# EAGLE library part MCP41* (library IC_Data-Conversion)
7/8-Bit Single/Dual SPI Digital POT with Volatile Memory Datasheet <http://ww1.microchip.com/downloads/en/devicedoc/22060b.pdf>
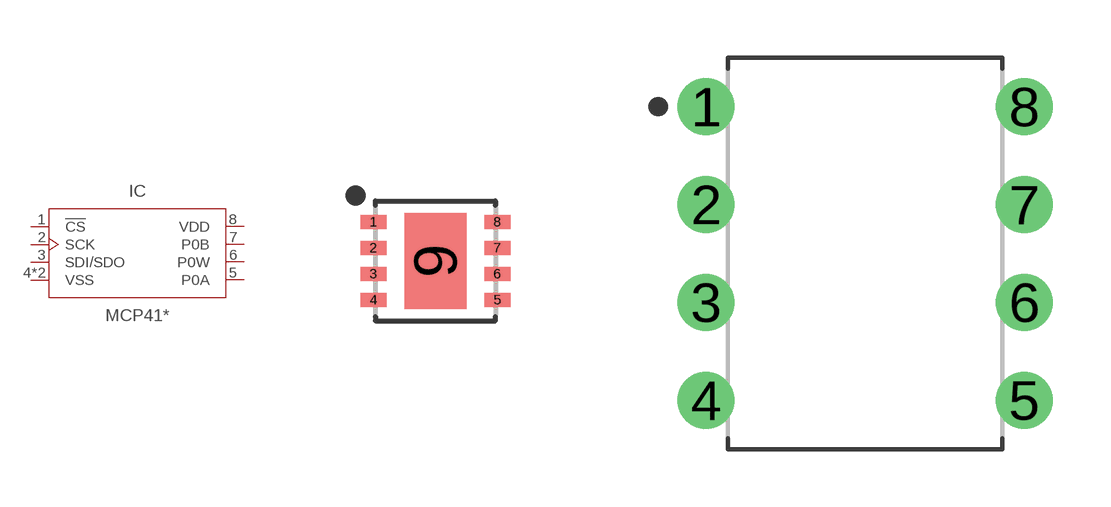
[diagram p0: symbol with the pads of SON65P300X300X100-9T160X240N; footprints SON65P300X300X100-9T160X240N, DIP825W55P254L1016H533Q8B]

Designator prefix IC

## MCP4131-103E/MF_DFN-8 (CATEGORY: IC_Data-Conversion; DESCRIPTION: 7/8-Bit Single/Dual SPI Digital POT with Volatile Memory; MANUFACTURER: Microchip Technology; MPN: MCP4131-103E/MF; OPERATING_TEMPERATURE: -40°C ~ 125°C; PART_STATUS: ACTIVE; ROHS_COMPLIANT: COMPLIANT; SERIES: MCP41X; SUB_CATEGORY: Digital Potentiometer; THERMALLOSS: 0.4 W; VALUE: MCP4131-103E/MF), MCP4131-104E/MF_DFN-8 (CATEGORY: IC_Data-Conversion; DESCRIPTION: 7/8-Bit Single/Dual SPI Digital POT with Volatile Memory; MANUFACTURER: Microchip Technology; MPN: MCP4131-104E/MF; OPERATING_TEMPERATURE: -40°C ~ 125°C; PART_STATUS: ACTIVE; ROHS_COMPLIANT: COMPLIANT; SERIES: MCP41X; SUB_CATEGORY: Digital Potentiometer; THERMALLOSS: 0.4 W; VALUE: MCP4131-104E/MF), MCP4131-502E/MF_DFN-8 (CATEGORY: IC_Data-Conversion; DESCRIPTION: 7/8-Bit Single/Dual SPI Digital POT with Volatile Memory; MANUFACTURER: Microchip Technology; MPN: MCP4131-502E/MF; OPERATING_TEMPERATURE: -40°C ~ 125°C; PART_STATUS: ACTIVE; ROHS_COMPLIANT: COMPLIANT; SERIES: MCP41X; SUB_CATEGORY: Digital Potentiometer; THERMALLOSS: 0.4 W; VALUE: MCP4131-502E/MF), MCP4131-503E/MF_DFN-8 (CATEGORY: IC_Data-Conversion; DESCRIPTION: 7/8-Bit Single/Dual SPI Digital POT with Volatile Memory; MANUFACTURER: Microchip Technology; MPN: MCP4131-503/MF; OPERATING_TEMPERATURE: -40°C ~ 125°C; PART_STATUS: ACTIVE; ROHS_COMPLIANT: COMPLIANT; SERIES: MCP41X; SUB_CATEGORY: Digital Potentiometer; THERMALLOSS: 0.4 W; VALUE: MCP4131-503/MF), MCP4141-103E/MF_DFN-8 (CATEGORY: IC_Data-Conversion; DESCRIPTION: 7/8-Bit Single/Dual SPI Digital POT with Volatile Memory; MANUFACTURER: Microchip Technology; MPN: MCP4141-103E/MF; OPERATING_TEMPERATURE: -40°C ~ 125°C; PART_STATUS: ACTIVE; ROHS_COMPLIANT: COMPLIANT; SERIES: MCP41X; SUB_CATEGORY: Digital Potentiometer; THERMALLOSS: 0.4 W; VALUE: MCP4141-103E/MF), MCP4141-104E/MF_DFN-8 (CATEGORY: IC_Data-Conversion; DESCRIPTION: 7/8-Bit Single/Dual SPI Digital POT with Volatile Memory; MANUFACTURER: Microchip Technology; MPN: MCP4141-104E/MF; OPERATING_TEMPERATURE: -40°C ~ 125°C; PART_STATUS: ACTIVE; ROHS_COMPLIANT: COMPLIANT; SERIES: MCP41X; SUB_CATEGORY: Digital Potentiometer; THERMALLOSS: 0.4 W; VALUE: MCP4141-104E/MF), MCP4141-502E/MF_DFN-8 (CATEGORY: IC_Data-Conversion; DESCRIPTION: 7/8-Bit Single/Dual SPI Digital POT with Volatile Memory; MANUFACTURER: Microchip Technology; MPN: MCP4141-502E/MF; OPERATING_TEMPERATURE: -40°C ~ 125°C; PART_STATUS: ACTIVE; ROHS_COMPLIANT: COMPLIANT; SERIES: MCP41X; SUB_CATEGORY: Digital Potentiometer; THERMALLOSS: 0.4 W; VALUE: MCP4141-502E/MF), MCP4141-503E/MF_DFN-8 (CATEGORY: IC_Data-Conversion; DESCRIPTION: 7/8-Bit Single/Dual SPI Digital POT with Volatile Memory; MANUFACTURER: Microchip Technology; MPN: MCP4141-503E/MF; OPERATING_TEMPERATURE: -40°C ~ 125°C; PART_STATUS: ACTIVE; ROHS_COMPLIANT: COMPLIANT; SERIES: MCP41X; SUB_CATEGORY: Digital Potentiometer; THERMALLOSS: 0.4 W; VALUE: MCP4141-503E/MF), MCP4151-103E/MF_DFN-8 (CATEGORY: IC_Data-Conversion; DESCRIPTION: 7/8-Bit Single/Dual SPI Digital POT with Volatile Memory; MANUFACTURER: Microchip Technology; MPN: MCP4151-103E/MF; OPERATING_TEMPERATURE: -40°C ~ 125°C; PART_STATUS: ACTIVE; ROHS_COMPLIANT: COMPLIANT; SERIES: MCP41X; SUB_CATEGORY: Digital Potentiometer; THERMALLOSS: 0.4 W; VALUE: MCP4151-103E/MF), MCP4151-104E/MF_DFN-8 (CATEGORY: IC_Data-Conversion; DESCRIPTION: 7/8-Bit Single/Dual SPI Digital POT with Volatile Memory; MANUFACTURER: Microchip Technology; MPN: MCP4151-104E/MF; OPERATING_TEMPERATURE: -40°C ~ 125°C; PART_STATUS: ACTIVE; ROHS_COMPLIANT: COMPLIANT; SERIES: MCP41X; SUB_CATEGORY: Digital Potentiometer; THERMALLOSS: 0.4 W; VALUE: MCP4151-104E/MF), MCP4151-502E/MF_DFN-8 (CATEGORY: IC_Data-Conversion; DESCRIPTION: 7/8-Bit Single/Dual SPI Digital POT with Volatile Memory; MANUFACTURER: Microchip Technology; MPN: MCP4151-502E/MF; OPERATING_TEMPERATURE: -40°C ~ 125°C; PART_STATUS: ACTIVE; ROHS_COMPLIANT: COMPLIANT; SERIES: MCP41X; SUB_CATEGORY: Digital Potentiometer; THERMALLOSS: 0.4 W; VALUE: MCP4151-502E/MF), MCP4151-503E/MF_DFN-8 (CATEGORY: IC_Data-Conversion; DESCRIPTION: 7/8-Bit Single/Dual SPI Digital POT with Volatile Memory; MANUFACTURER: Microchip Technology; MPN: MCP4151-503E/MF; OPERATING_TEMPERATURE: -40°C ~ 125°C; PART_STATUS: ACTIVE; ROHS_COMPLIANT: COMPLIANT; SERIES: MCP41X; SUB_CATEGORY: Digital Potentiometer; THERMALLOSS: 0.4 W; VALUE: MCP4151-503E/MF), MCP4161-103E/MF_DFN-8 (CATEGORY: IC_Data-Conversion; DESCRIPTION: 7/8-Bit Single/Dual SPI Digital POT with Volatile Memory; MANUFACTURER: Microchip Technology; MPN: MCP4161-103E/MF; OPERATING_TEMPERATURE: -40°C ~ 125°C; PART_STATUS: ACTIVE; ROHS_COMPLIANT: COMPLIANT; SERIES: MCP41X; SUB_CATEGORY: Digital Potentiometer; THERMALLOSS: 0.4 W; VALUE: MCP4161-103E/MF), MCP4161-104E/MF_DFN-8 (CATEGORY: IC_Data-Conversion; DESCRIPTION: 7/8-Bit Single/Dual SPI Digital POT with Volatile Memory; MANUFACTURER: Microchip Technology; MPN: MCP4161-104E/MF; OPERATING_TEMPERATURE: -40°C ~ 125°C; PART_STATUS: ACTIVE; ROHS_COMPLIANT: COMPLIANT; SERIES: MCP41X; SUB_CATEGORY: Digital Potentiometer; THERMALLOSS: 0.4 W; VALUE: MCP4161-104E/MF), MCP4161-502E/MF_DFN-8 (CATEGORY: IC_Data-Conversion; DESCRIPTION: 7/8-Bit Single/Dual SPI Digital POT with Volatile Memory; MANUFACTURER: Microchip Technology; MPN: MCP4161-502E/MF; OPERATING_TEMPERATURE: -40°C ~ 125°C; PART_STATUS: ACTIVE; ROHS_COMPLIANT: COMPLIANT; SERIES: MCP41X; SUB_CATEGORY: Digital Potentiometer; THERMALLOSS: 0.4 W; VALUE: MCP4161-502E/MF), MCP4161-503E/MF_DFN-8 (CATEGORY: IC_Data-Conversion; DESCRIPTION: 7/8-Bit Single/Dual SPI Digital POT with Volatile Memory; MANUFACTURER: Microchip Technology; MPN: MCP4161-503E/MF; OPERATING_TEMPERATURE: -40°C ~ 125°C; PART_STATUS: ACTIVE; ROHS_COMPLIANT: COMPLIANT; SERIES: MCP41X; SUB_CATEGORY: Digital Potentiometer; THERMALLOSS: 0.4 W; VALUE: MCP4161-503E/MF)  [SON65P300X300X100-9T160X240N]
1  !CS  in
2  SCK  in
3  SDI/SDO
4  VSS  pwr
5  P0A
6  P0W
7  P0B
8  VDD  pwr
9  VSS  pwr

## MCP4131-103E/P_PDIP-8 (CATEGORY: IC_Data-Conversion; DESCRIPTION: 7/8-Bit Single/Dual SPI Digital POT with Volatile Memory; MANUFACTURER: Microchip Technology; MPN: MCP4131-103E/P; OPERATING_TEMPERATURE: -40°C ~ 125°C; PART_STATUS: ACTIVE; ROHS_COMPLIANT: COMPLIANT; SUB_CATEGORY: Digital Potentiometer; THERMALLOSS: 0.4 W; VALUE: MCP4131-103E/P), MCP4131-104E/P_PDIP-8 (CATEGORY: IC_Data-Conversion; DESCRIPTION: 7/8-Bit Single/Dual SPI Digital POT with Volatile Memory; MANUFACTURER: Microchip Technology; MPN: MCP4131-104E/P; OPERATING_TEMPERATURE: -40°C ~ 125°C; PART_STATUS: ACTIVE; ROHS_COMPLIANT: COMPLIANT; SUB_CATEGORY: Digital Potentiometer; THERMALLOSS: 0.4 W; VALUE: MCP4131-104E/P), MCP4131-502E/P_PDIP-8 (CATEGORY: IC_Data-Conversion; DESCRIPTION: 7/8-Bit Single/Dual SPI Digital POT with Volatile Memory; MANUFACTURER: Microchip Technology; MPN: MCP4131-502E/P; OPERATING_TEMPERATURE: -40°C ~ 125°C; PART_STATUS: ACTIVE; ROHS_COMPLIANT: COMPLIANT; SUB_CATEGORY: Digital Potentiometer; THERMALLOSS: 0.4 W; VALUE: MCP4131-502E/P), MCP4131-503E/P_PDIP-8 (CATEGORY: IC_Data-Conversion; DESCRIPTION: 7/8-Bit Single/Dual SPI Digital POT with Volatile Memory; MANUFACTURER: Microchip Technology; MPN: MCP4131-503E/P; OPERATING_TEMPERATURE: -40°C ~ 125°C; PART_STATUS: ACTIVE; ROHS_COMPLIANT: COMPLIANT; SUB_CATEGORY: Digital Potentiometer; THERMALLOSS: 0.4 W; VALUE: MCP4131-503E/P), MCP4141-103E/P_PDIP-8 (CATEGORY: IC_Data-Conversion; DESCRIPTION: 7/8-Bit Single/Dual SPI Digital POT with Volatile Memory; MANUFACTURER: Microchip Technology; MPN: MCP4141-103E/P; OPERATING_TEMPERATURE: -40°C ~ 125°C; PART_STATUS: ACTIVE; ROHS_COMPLIANT: COMPLIANT; SUB_CATEGORY: Digital Potentiometer; THERMALLOSS: 0.4 W; VALUE: MCP4141-103E/P), MCP4141-104E/P_PDIP-8 (CATEGORY: IC_Data-Conversion; DESCRIPTION: 7/8-Bit Single/Dual SPI Digital POT with Volatile Memory; MANUFACTURER: Microchip Technology; MPN: MCP4141-104E/P; OPERATING_TEMPERATURE: -40°C ~ 125°C; PART_STATUS: ACTIVE; ROHS_COMPLIANT: COMPLIANT; SUB_CATEGORY: Digital Potentiometer; THERMALLOSS: 0.4 W; VALUE: MCP4141-104E/P), MCP4141-502E/P_PDIP-8 (CATEGORY: IC_Data-Conversion; DESCRIPTION: 7/8-Bit Single/Dual SPI Digital POT with Volatile Memory; MANUFACTURER: Microchip Technology; MPN: MCP4141-502E/P; OPERATING_TEMPERATURE: -40°C ~ 125°C; PART_STATUS: ACTIVE; ROHS_COMPLIANT: COMPLIANT; SUB_CATEGORY: Digital Potentiometer; THERMALLOSS: 0.4 W; VALUE: MCP4141-502E/P), MCP4141-503E/P_PDIP-8 (CATEGORY: IC_Data-Conversion; DESCRIPTION: 7/8-Bit Single/Dual SPI Digital POT with Volatile Memory; MANUFACTURER: Microchip Technology; MPN: MCP4141-503E/P; OPERATING_TEMPERATURE: -40°C ~ 125°C; PART_STATUS: ACTIVE; ROHS_COMPLIANT: COMPLIANT; SUB_CATEGORY: Digital Potentiometer; THERMALLOSS: 0.4 W; VALUE: MCP4141-503E/P), MCP4151-103E/P_PDIP-8 (CATEGORY: IC_Data-Conversion; DESCRIPTION: 7/8-Bit Single/Dual SPI Digital POT with Volatile Memory; MANUFACTURER: Microchip Technology; MPN: MCP4151-103E/P; OPERATING_TEMPERATURE: -40°C ~ 125°C; PART_STATUS: ACTIVE; ROHS_COMPLIANT: COMPLIANT; SUB_CATEGORY: Digital Potentiometer; THERMALLOSS: 0.4 W; VALUE: MCP4151-103E/P), MCP4151-104E/P_PDIP-8 (CATEGORY: IC_Data-Conversion; DESCRIPTION: 7/8-Bit Single/Dual SPI Digital POT with Volatile Memory; MANUFACTURER: Microchip Technology; MPN: MCP4151-104E/P; OPERATING_TEMPERATURE: -40°C ~ 125°C; PART_STATUS: ACTIVE; ROHS_COMPLIANT: COMPLIANT; SUB_CATEGORY: Digital Potentiometer; THERMALLOSS: 0.4 W; VALUE: MCP4151-104E/P), MCP4151-502E/P_PDIP-8 (CATEGORY: IC_Data-Conversion; DESCRIPTION: 7/8-Bit Single/Dual SPI Digital POT with Volatile Memory; MANUFACTURER: Microchip Technology; MPN: MCP4151-502E/P; OPERATING_TEMPERATURE: -40°C ~ 125°C; PART_STATUS: ACTIVE; ROHS_COMPLIANT: COMPLIANT; SUB_CATEGORY: Digital Potentiometer; THERMALLOSS: 0.4 W; VALUE: MCP4151-502E/P), MCP4151-503E/P_PDIP-8 (CATEGORY: IC_Data-Conversion; DESCRIPTION: 7/8-Bit Single/Dual SPI Digital POT with Volatile Memory; MANUFACTURER: Microchip Technology; MPN: MCP4151-503E/P; OPERATING_TEMPERATURE: -40°C ~ 125°C; PART_STATUS: ACTIVE; ROHS_COMPLIANT: COMPLIANT; SUB_CATEGORY: Digital Potentiometer; THERMALLOSS: 0.4 W; VALUE: MCP4151-503E/P), MCP4161-103E/P_PDIP-8 (CATEGORY: IC_Data-Conversion; DESCRIPTION: 7/8-Bit Single/Dual SPI Digital POT with Volatile Memory; MANUFACTURER: Microchip Technology; MPN: MCP4161-103E/P; OPERATING_TEMPERATURE: -40°C ~ 125°C; PART_STATUS: ACTIVE; ROHS_COMPLIANT: COMPLIANT; SUB_CATEGORY: Digital Potentiometer; THERMALLOSS: 0.4 W; VALUE: MCP4161-103E/P), MCP4161-104E/P_PDIP-8 (CATEGORY: IC_Data-Conversion; DESCRIPTION: 7/8-Bit Single/Dual SPI Digital POT with Volatile Memory; MANUFACTURER: Microchip Technology; MPN: MCP4161-104E/P; OPERATING_TEMPERATURE: -40°C ~ 125°C; PART_STATUS: ACTIVE; ROHS_COMPLIANT: COMPLIANT; SUB_CATEGORY: Digital Potentiometer; THERMALLOSS: 0.4 W; VALUE: MCP4161-104E/P), MCP4161-502E/P_PDIP-8 (CATEGORY: IC_Data-Conversion; DESCRIPTION: 7/8-Bit Single/Dual SPI Digital POT with Volatile Memory; MANUFACTURER: Microchip Technology; MPN: MCP4161-502E/P; OPERATING_TEMPERATURE: -40°C ~ 125°C; PART_STATUS: ACTIVE; ROHS_COMPLIANT: COMPLIANT; SUB_CATEGORY: Digital Potentiometer; THERMALLOSS: 0.4 W; VALUE: MCP4161-502E/P), MCP4161-503E/P_PDIP-8 (CATEGORY: IC_Data-Conversion; DESCRIPTION: 7/8-Bit Single/Dual SPI Digital POT with Volatile Memory; MANUFACTURER: Microchip Technology; MPN: MCP4161-503E/P; OPERATING_TEMPERATURE: -40°C ~ 125°C; PART_STATUS: ACTIVE; ROHS_COMPLIANT: COMPLIANT; SUB_CATEGORY: Digital Potentiometer; THERMALLOSS: 0.4 W; VALUE: MCP4161-503E/P)  [DIP825W55P254L1016H533Q8B]
1  !CS  in
2  SCK  in
3  SDI/SDO
4  VSS  pwr
5  P0A
6  P0W
7  P0B
8  VDD  pwr

## MCP4131-103E/SN_SOIC-8 (CATEGORY: IC_Data-Conversion; DESCRIPTION: 7/8-Bit Single/Dual SPI Digital POT with Volatile Memory; MANUFACTURER: Microchip Technology; MPN: MCP4131-103E/SN; OPERATING_TEMPERATURE: -40°C ~ 125°C; PART_STATUS: ACTIVE; ROHS_COMPLIANT: COMPLIANT; SERIES: MCP41X; SUB_CATEGORY: Digital Potentiometer; THERMALLOSS: 0.4 W; VALUE: MCP4131-103E/SN), MCP4131-104E/SN_SOIC-8 (CATEGORY: IC_Data-Conversion; DESCRIPTION: 7/8-Bit Single/Dual SPI Digital POT with Volatile Memory; MANUFACTURER: Microchip Technology; MPN: MCP4131-104E/SN; OPERATING_TEMPERATURE: -40°C ~ 125°C; PART_STATUS: ACTIVE; ROHS_COMPLIANT: COMPLIANT; SERIES: MCP41X; SUB_CATEGORY: Digital Potentiometer; THERMALLOSS: 0.4 W; VALUE: MCP4131-104E/SN), MCP4131-502E/SN_SOIC-8 (CATEGORY: IC_Data-Conversion; DESCRIPTION: 7/8-Bit Single/Dual SPI Digital POT with Volatile Memory; MANUFACTURER: Microchip Technology; MPN: MCP4131-502E/SN; OPERATING_TEMPERATURE: -40°C ~ 125°C; PART_STATUS: ACTIVE; ROHS_COMPLIANT: COMPLIANT; SERIES: MCP41X; SUB_CATEGORY: Digital Potentiometer; THERMALLOSS: 0.4 W; VALUE: MCP4131-502E/SN), MCP4131-503E/SN_SOIC-8 (CATEGORY: IC_Data-Conversion; DESCRIPTION: 7/8-Bit Single/Dual SPI Digital POT with Volatile Memory; MANUFACTURER: Microchip Technology; MPN: MCP4131-503E/SN; OPERATING_TEMPERATURE: -40°C ~ 125°C; PART_STATUS: ACTIVE; ROHS_COMPLIANT: COMPLIANT; SERIES: MCP41X; SUB_CATEGORY: Digital Potentiometer; THERMALLOSS: 0.4 W; VALUE: MCP4131-503E/SN), MCP4141-103E/SN_SOIC-8 (CATEGORY: IC_Data-Conversion; DESCRIPTION: 7/8-Bit Single/Dual SPI Digital POT with Volatile Memory; MANUFACTURER: Microchip Technology; MPN: MCP4141-103E/SN; OPERATING_TEMPERATURE: -40°C ~ 125°C; PART_STATUS: ACTIVE; ROHS_COMPLIANT: COMPLIANT; SERIES: MCP41X; SUB_CATEGORY: Digital Potentiometer; THERMALLOSS: 0.4 W; VALUE: MCP4141-103E/SN), MCP4141-104E/SN_SOIC-8 (CATEGORY: IC_Data-Conversion; DESCRIPTION: 7/8-Bit Single/Dual SPI Digital POT with Volatile Memory; MANUFACTURER: Microchip Technology; MPN: MCP4141-104E/SN; OPERATING_TEMPERATURE: -40°C ~ 125°C; PART_STATUS: ACTIVE; ROHS_COMPLIANT: COMPLIANT; SERIES: MCP41X; SUB_CATEGORY: Digital Potentiometer; THERMALLOSS: 0.4 W; VALUE: MCP4141-104E/SN), MCP4141-502E/SN_SOIC-8 (CATEGORY: IC_Data-Conversion; DESCRIPTION: 7/8-Bit Single/Dual SPI Digital POT with Volatile Memory; MANUFACTURER: Microchip Technology; MPN: MCP4141-502E/SN; OPERATING_TEMPERATURE: -40°C ~ 125°C; PART_STATUS: ACTIVE; ROHS_COMPLIANT: COMPLIANT; SERIES: MCP41X; SUB_CATEGORY: Digital Potentiometer; THERMALLOSS: 0.4 W; VALUE: MCP4141-502E/SN), MCP4141-503E/SN_SOIC-8 (CATEGORY: IC_Data-Conversion; DESCRIPTION: 7/8-Bit Single/Dual SPI Digital POT with Volatile Memory; MANUFACTURER: Microchip Technology; MPN: MCP4141-503E/SN; OPERATING_TEMPERATURE: -40°C ~ 125°C; PART_STATUS: ACTIVE; ROHS_COMPLIANT: COMPLIANT; SERIES: MCP41X; SUB_CATEGORY: Digital Potentiometer; THERMALLOSS: 0.4 W; VALUE: MCP4141-503E/SN), MCP4151-103E/SN_SOIC-8 (CATEGORY: IC_Data-Conversion; DESCRIPTION: 7/8-Bit Single/Dual SPI Digital POT with Volatile Memory; MANUFACTURER: Microchip Technology; MPN: MCP4151-103E/SN; OPERATING_TEMPERATURE: -40°C ~ 125°C; PART_STATUS: ACTIVE; ROHS_COMPLIANT: COMPLIANT; SERIES: MCP41X; SUB_CATEGORY: Digital Potentiometer; THERMALLOSS: 0.4 W; VALUE: MCP4151-103E/SN), MCP4151-104E/SN_SOIC-8 (CATEGORY: IC_Data-Conversion; DESCRIPTION: 7/8-Bit Single/Dual SPI Digital POT with Volatile Memory; MANUFACTURER: Microchip Technology; MPN: MCP4151-104E/SN; OPERATING_TEMPERATURE: -40°C ~ 125°C; PART_STATUS: ACTIVE; ROHS_COMPLIANT: COMPLIANT; SERIES: MCP41X; SUB_CATEGORY: Digital Potentiometer; THERMALLOSS: 0.4 W; VALUE: MCP4151-104E/SN), MCP4151-502E/SN_SOIC-8 (CATEGORY: IC_Data-Conversion; DESCRIPTION: 7/8-Bit Single/Dual SPI Digital POT with Volatile Memory; MANUFACTURER: Microchip Technology; MPN: MCP4151-502E/SN; OPERATING_TEMPERATURE: -40°C ~ 125°C; PART_STATUS: ACTIVE; ROHS_COMPLIANT: COMPLIANT; SERIES: MCP41X; SUB_CATEGORY: Digital Potentiometer; THERMALLOSS: 0.4 W; VALUE: MCP4151-502E/SN), MCP4151-503E/SN_SOIC-8 (CATEGORY: IC_Data-Conversion; DESCRIPTION: 7/8-Bit Single/Dual SPI Digital POT with Volatile Memory; MANUFACTURER: Microchip Technology; MPN: MCP4151-503E/SN; OPERATING_TEMPERATURE: -40°C ~ 125°C; PART_STATUS: ACTIVE; ROHS_COMPLIANT: COMPLIANT; SERIES: MCP41X; SUB_CATEGORY: Digital Potentiometer; THERMALLOSS: 0.4 W; VALUE: MCP4151-503E/SN), MCP4161-103E/SN_SOIC-8 (CATEGORY: IC_Data-Conversion; DESCRIPTION: 7/8-Bit Single/Dual SPI Digital POT with Volatile Memory; MANUFACTURER: Microchip Technology; MPN: MCP4161-103E/SN; OPERATING_TEMPERATURE: -40°C ~ 125°C; PART_STATUS: ACTIVE; ROHS_COMPLIANT: COMPLIANT; SERIES: MCP41X; SUB_CATEGORY: Digital Potentiometer; THERMALLOSS: 0.4 W; VALUE: MCP4161-103E/SN), MCP4161-104E/SN_SOIC-8 (CATEGORY: IC_Data-Conversion; DESCRIPTION: 7/8-Bit Single/Dual SPI Digital POT with Volatile Memory; MANUFACTURER: Microchip Technology; MPN: MCP4161-104E/SN; OPERATING_TEMPERATURE: -40°C ~ 125°C; PART_STATUS: ACTIVE; ROHS_COMPLIANT: COMPLIANT; SERIES: MCP41X; SUB_CATEGORY: Digital Potentiometer; THERMALLOSS: 0.4 W; VALUE: MCP4161-104E/SN), MCP4161-502E/SN_SOIC-8 (CATEGORY: IC_Data-Conversion; DESCRIPTION: 7/8-Bit Single/Dual SPI Digital POT with Volatile Memory; MANUFACTURER: Microchip Technology; MPN: MCP4161-502E/SN; OPERATING_TEMPERATURE: -40°C ~ 125°C; PART_STATUS: ACTIVE; ROHS_COMPLIANT: COMPLIANT; SERIES: MCP41X; SUB_CATEGORY: Digital Potentiometer; THERMALLOSS: 0.4 W; VALUE: MCP4161-502E/SN), MCP4161-503E/SN_SOIC-8 (CATEGORY: IC_Data-Conversion; DESCRIPTION: 7/8-Bit Single/Dual SPI Digital POT with Volatile Memory; MANUFACTURER: Microchip Technology; MPN: MCP4161-503E/SN; OPERATING_TEMPERATURE: -40°C ~ 125°C; PART_STATUS: ACTIVE; ROHS_COMPLIANT: COMPLIANT; SERIES: MCP41X; SUB_CATEGORY: Digital Potentiometer; THERMALLOSS: 0.4 W; VALUE: MCP4161-503E/SN)  [SOIC127P600X175-8N]
Pads as for DIP825W55P254L1016H533Q8B

## Footprint SON65P300X300X100-9T160X240N (pad centres in mm)
8-SON (DFN), 0.65 mm pitch, 3.00 X 3.00 X 1.00 mm body, 2.40 X 1.60 mm thermal pad 8-pin SON (DFN) package with 0.65mm pitch, with body size 3.00 X 3.00 X 1.00 mm and thermal pad size 2.40 X 1.60 mm
smd 0.65 x 0.35: 1 -1.55,0.975; 2 -1.55,0.325; 3 -1.55,-0.325; 4 -1.55,-0.975; 5 1.55,-0.975; 6 1.55,-0.325; 7 1.55,0.325; 8 1.55,0.975
smd 1.55 x 2.4: 9 0,0

## Footprint DIP825W55P254L1016H533Q8B (pad centres in mm)
8-DIP, 2.54 mm (0.10 in) pitch, 8.25 mm (0.33 in) span, 10.16 X 7.11 X 5.33 mm body 8-pin DIP package with 2.54 mm (0.10 in) pitch, 8.25 mm (0.33 in) span with body size 10.16 X 7.11 X 5.33 mm
drill 0.876 pad 1.476: 1 -4.128,3.81; 2 -4.128,1.27; 3 -4.128,-1.27; 4 -4.128,-3.81; 5 4.128,-3.81; 6 4.128,-1.27; 7 4.128,1.27; 8 4.128,3.81

## Footprint SOIC127P600X175-8N (pad centres in mm)
8-SOIC, 1.27 mm pitch, 6.00 mm span, 4.90 X 3.90 X 1.75 mm body 8-pin SOIC package with 1.27 mm pitch, 6.00 mm span with body size 4.90 X 3.90 X 1.75 mm
smd 1.55 x 0.6: 1 -2.7,1.905; 2 -2.7,0.635; 3 -2.7,-0.635; 4 -2.7,-1.905; 5 2.7,-1.905; 6 2.7,-0.635; 7 2.7,0.635; 8 2.7,1.905